# Altium footprint library BATHLD013SMTTR.PcbLib: 1 footprints
Each footprint in its own frame and in the unit in brackets; x right, y up, seen from the top. Pads: shape width x height; smd on the part's side, far side on the other; paste and mask are expansions set on the pad; w line width, h text height; cw(c..) or ccw(c..) is an arc to the next point about the centre after c.
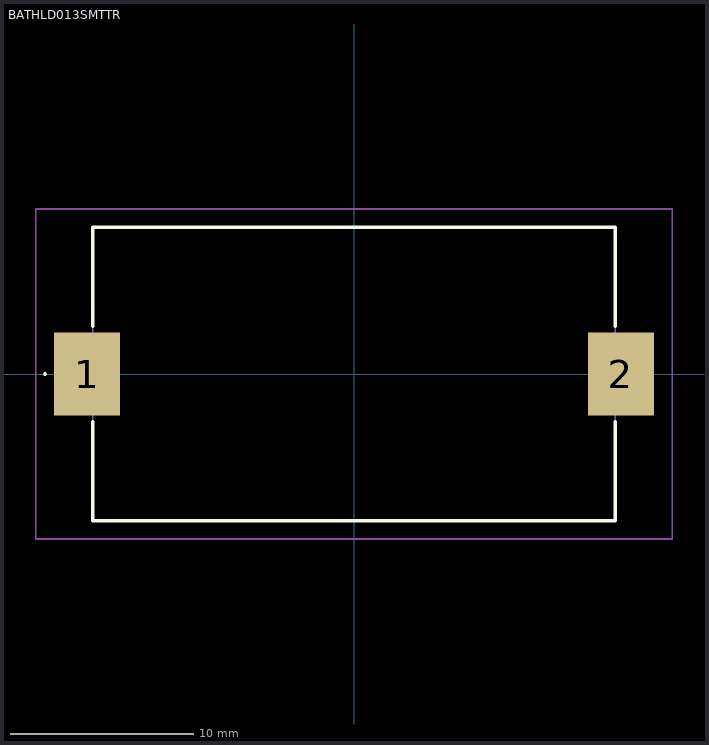
[diagram p0: the footprint, top view; thin cyan lines are the x and y axes]

## BATHLD013SMTTR [mm]
pads (2):
  rect 3.6x4.5 smd: 1(-14.55,0) 2(14.55,0)
Top Overlay:
  lines w0.1: -16.9,0 cw(c-16.85,0) -16.8,0 ; -16.9,0 -16.9,0 ; -16.9,0 ccw(c-16.85,0) -16.8,0 ; -16.8,0 -16.8,0
  lines w0.2: -14.25,-2.6 -14.25,-8 14.25,-8 14.25,-2.6 ; -14.25,2.6 -14.25,8 14.25,8 14.25,2.6
Mechanical 15:
  lines w0.1: -14.25,-8 14.25,-8 14.25,8 -14.25,8 -14.25,-8
Mechanical 20:
  lines w0.1: -17.35,-9 17.35,-9 17.35,9 -17.35,9 -17.35,-9